# Altium footprint library PTN78000W.PcbLib: 1 footprints
Each footprint in its own frame and in the unit in brackets; x right, y up, seen from the top. Pads: shape width x height; smd on the part's side, far side on the other; paste and mask are expansions set on the pad; w line width, h text height; cw(c..) or ccw(c..) is an arc to the next point about the centre after c.
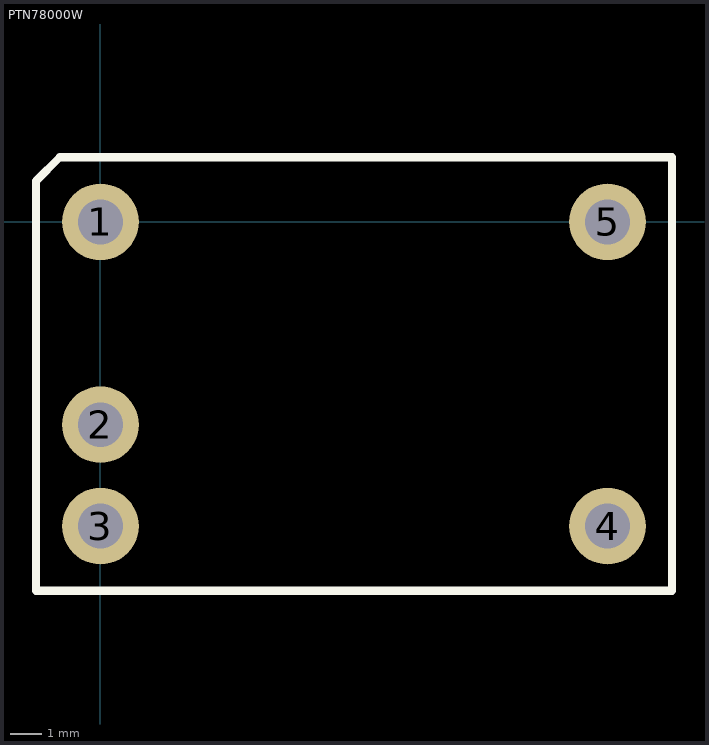
[diagram p0: the footprint, top view; thin cyan lines are the x and y axes]

## PTN78000W [mm]
pads (5):
  round 2.4 hole 1.4: 1(0,0) 2(0,-6.35) 3(0,-9.525) 4(15.875,-9.525) 5(15.875,0)
Top Overlay:
  lines w0.254: -1.25,2.025 -1.275,2.025 ; -1.275,2.025 17.9,2.025 17.9,-11.55 -2.025,-11.55 -2.025,1.275 -1.275,2.025